# EAGLE library part N42G-14 (library con-malina)
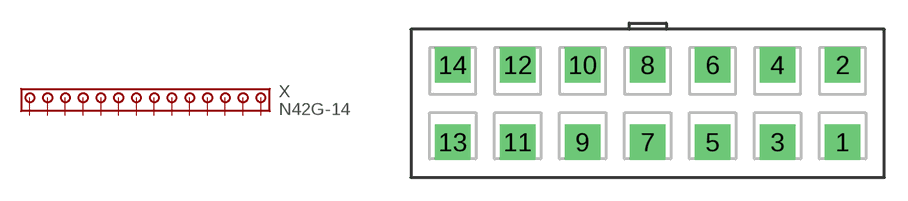
[diagram p4: symbol with the pads of N42G-14-VPS; footprint N42G-14-VPS]

Designator prefix X

## N42G-14-VPS  [N42G-14-VPS]
1  1  pas
2  2  pas
3  3  pas
4  4  pas
5  5  pas
6  6  pas
7  7  pas
8  8  pas
9  9  pas
10  10  pas
11  11  pas
12  12  pas
13  13  pas
14  14  pas

## Footprint N42G-14-VPS (pad centres in mm)
drill 1.5 pad 2.3 square: 1 12.6,-2.5; 2 12.6,2.5; 3 8.4,-2.5; 4 8.4,2.5; 5 4.2,-2.5; 6 4.2,2.5; 7 0,-2.5; 8 0,2.5; 9 -4.2,-2.5; 10 -4.2,2.5; 11 -8.4,-2.5; 12 -8.4,2.5; 13 -12.6,-2.5; 14 -12.6,2.5